# Altium integrated library TI Amplifiers and Linear Special Function Amplifier.IntLib: 708 symbols (part 7 of 47)
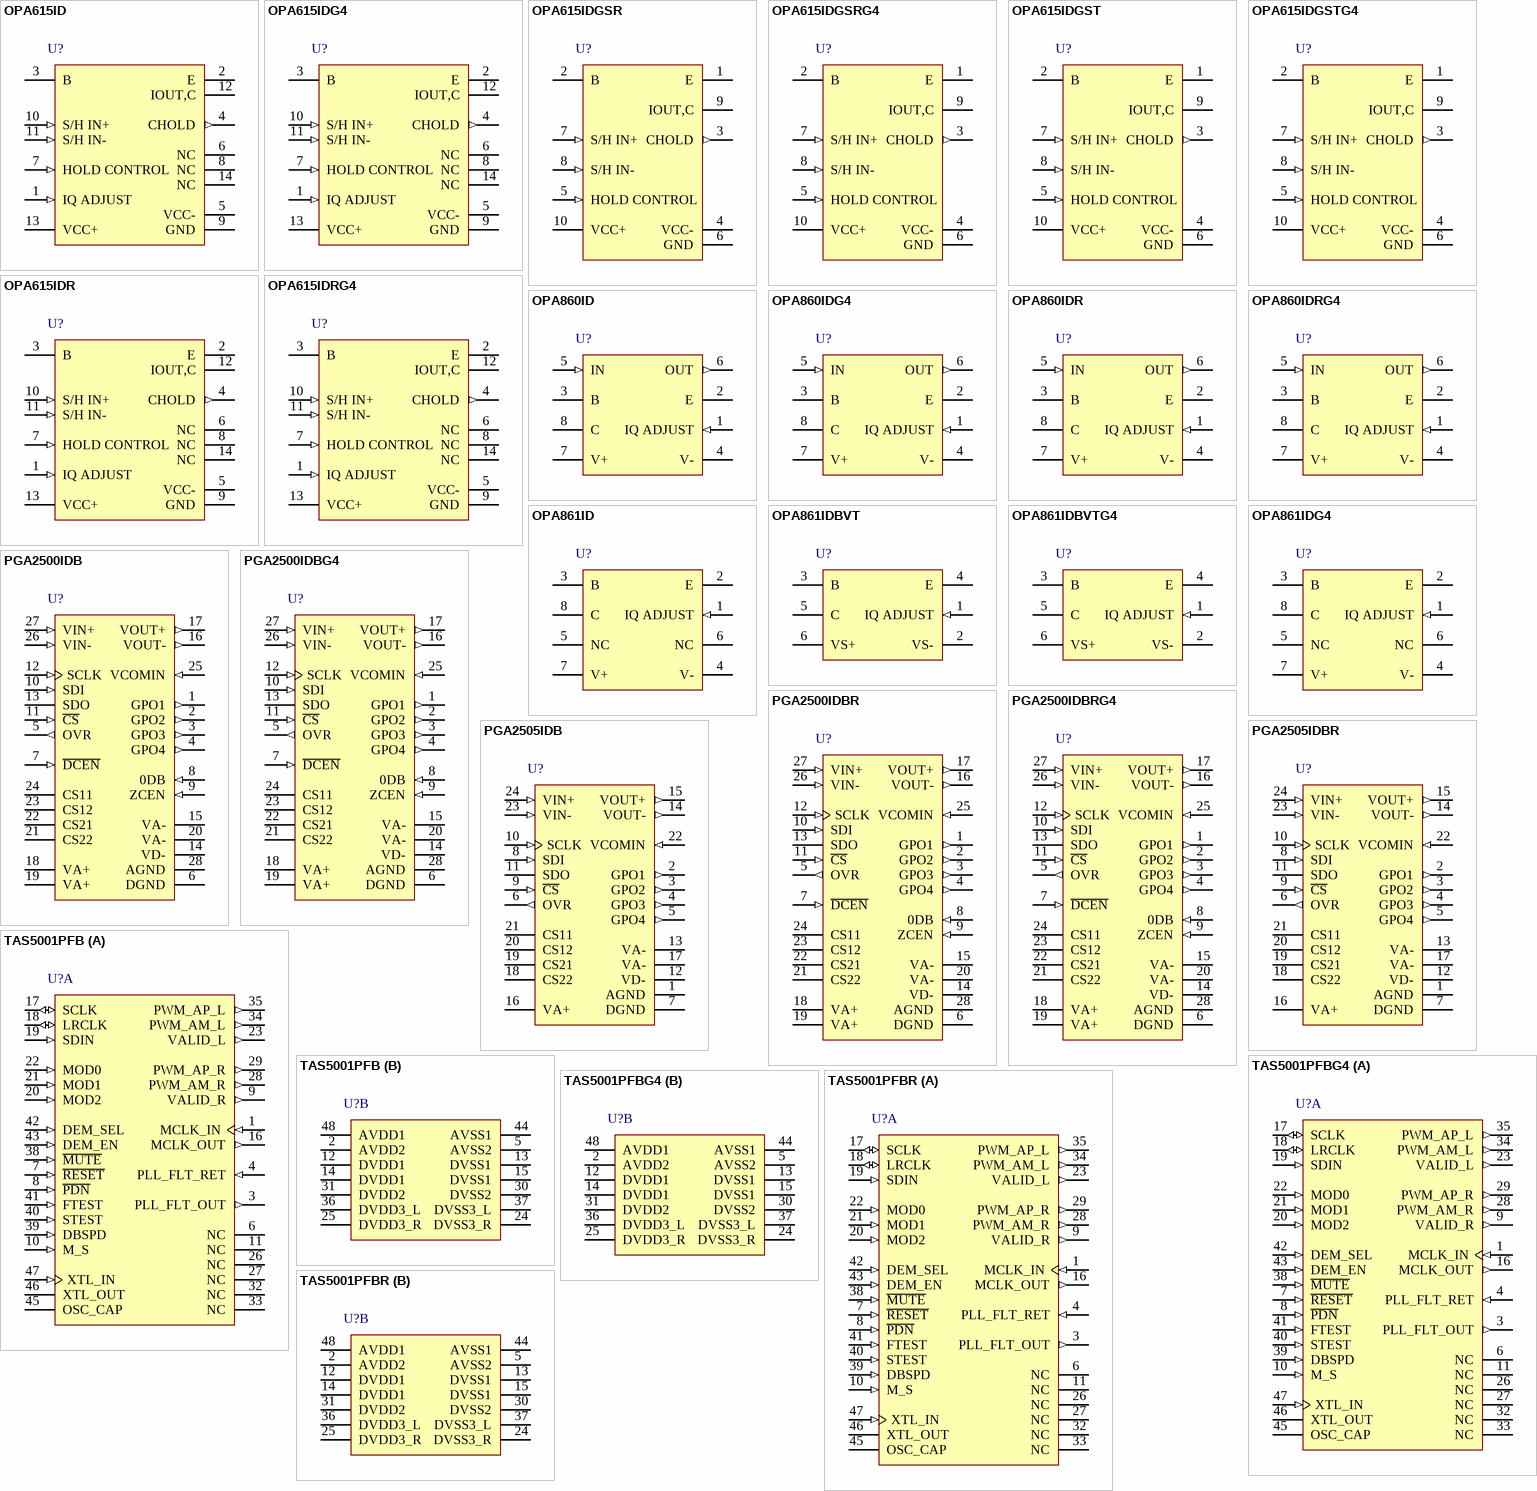
[diagram p45: symbols OPA615ID to TAS5001PFBR]

## OPA861IDBVT
designator U?
Wide Bandwidth Operational Transconductance Amplifier, -40 to 85 degC, 6-pin SOT23 (DBV6), Green (RoHS & no Sb/Br); Manufacturer: Texas Instruments; PartNumber: OPA861IDBVT; BW @ Acl(MHz): 80; Iib(Max)(nA): 5000; Io(Typ)(mA): 15; Iq per channel(Max)(mA): 5.9; Number of Channels: 1; Slew Rate(Typ)(V/us): 900; Vio(Max)(mV): 12; Vn at Flatband(Typ)(nV/rtHz): 2.4; Vs(Max)(V): 12.6; Vs(Min)(V): 4; DatasheetVersion: SBOS338G; PackageVersion: 4073253-5/K, 03/2006; PackageReference: DBV6; PackageDescription: 6-Pin Plastic Small Outline, Body 1.6 x 2.9 mm, Pitch 0.95 mm; Supplier 1: Digi-Key; Supplier Part Number 1: 296-18700-2-ND; Supplier 2: Digi-Key; Supplier Part Number 2: 296-18700-1-ND; Supplier 3: Digi-Key; Supplier Part Number 3: 296-18700-6-ND; Supplier 4: Mouser; Supplier Part Number 4: 595-OPA861IDBVT; Eco-Plan: Green (RoHS & no Sb/Br); SubFamily: Transconductance Amplifier; Mounting Technology: Surface Mount; Code_JEDEC: MO-178; ComponentLink1Description: Manufacturer URL; ComponentLink1URL: http://www.ti.com/; ComponentLink2Description: Datasheet; ComponentLink2URL: http://www.ti.com/general/docs/lit/getliterature.tsp?genericPartNumber=OPA861&fileType=pdf; ComponentLink3Description: Package Specification; ComponentLink3URL: http://www.ti.com/litv/pdf/mpds026h
footprint TI-DBV6_N (SOT23, 6-Leads, Body 3.05x1.75mm, Pitch 0.95mm, IPC Medium Density)
footprint TI-DBV6_L (SOT23, 6-Leads, Body 3.05x1.75mm, Pitch 0.95mm, IPC High Density)
footprint TI-DBV6_M (SOT23, 6-Leads, Body 3.05x1.75mm, Pitch 0.95mm, IPC Low Density)
pins: 1 IQ ADJUST (in), 2 VS- (power), 3 B, 4 E, 5 C, 6 VS+ (power)

## OPA861IDBVTG4
designator U?
Wide Bandwidth Operational Transconductance Amplifier, -40 to 85 degC, 6-pin SOT23 (DBV6), Green (RoHS & no Sb/Br); Manufacturer: Texas Instruments; PartNumber: OPA861IDBVTG4; BW @ Acl(MHz): 80; Iib(Max)(nA): 5000; Io(Typ)(mA): 15; Iq per channel(Max)(mA): 5.9; Number of Channels: 1; Slew Rate(Typ)(V/us): 900; Vio(Max)(mV): 12; Vn at Flatband(Typ)(nV/rtHz): 2.4; Vs(Max)(V): 12.6; Vs(Min)(V): 4; DatasheetVersion: SBOS338G; PackageVersion: 4073253-5/K, 03/2006; PackageReference: DBV6; PackageDescription: 6-Pin Plastic Small Outline, Body 1.6 x 2.9 mm, Pitch 0.95 mm; Supplier 1: Digi-Key; Supplier Part Number 1: OPA861IDBVTG4-ND; Supplier 2: Newark; Supplier Part Number 2: 33M9473; Supplier 3: Mouser; Supplier Part Number 3: 595-OPA861IDBVTG4; Eco-Plan: Green (RoHS & no Sb/Br); SubFamily: Transconductance Amplifier; Mounting Technology: Surface Mount; Code_JEDEC: MO-178; ComponentLink1Description: Manufacturer URL; ComponentLink1URL: http://www.ti.com/; ComponentLink2Description: Datasheet; ComponentLink2URL: http://www.ti.com/general/docs/lit/getliterature.tsp?genericPartNumber=OPA861&fileType=pdf; ComponentLink3Description: Package Specification; ComponentLink3URL: http://www.ti.com/litv/pdf/mpds026h
footprint TI-DBV6_N (SOT23, 6-Leads, Body 3.05x1.75mm, Pitch 0.95mm, IPC Medium Density)
footprint TI-DBV6_L (SOT23, 6-Leads, Body 3.05x1.75mm, Pitch 0.95mm, IPC High Density)
footprint TI-DBV6_M (SOT23, 6-Leads, Body 3.05x1.75mm, Pitch 0.95mm, IPC Low Density)
pins: 1 IQ ADJUST (in), 2 VS- (power), 3 B, 4 E, 5 C, 6 VS+ (power)

## OPA861IDG4
designator U?
Wide Bandwidth Operational Transconductance Amplifier, -40 to 85 degC, 8-pin SOIC (D8), Green (RoHS & no Sb/Br); Manufacturer: Texas Instruments; PartNumber: OPA861IDG4; BW @ Acl(MHz): 80; Iib(Max)(nA): 5000; Io(Typ)(mA): 15; Iq per channel(Max)(mA): 5.9; Number of Channels: 1; Slew Rate(Typ)(V/us): 900; Vio(Max)(mV): 12; Vn at Flatband(Typ)(nV/rtHz): 2.4; Vs(Max)(V): 12.6; Vs(Min)(V): 4; DatasheetVersion: SBOS338G; PackageVersion: 4040047-3/M, 06/2011; PackageReference: D8; PackageDescription: 8-Pin Plastic Small Outline, Body 4.9 x 3.9 mm, Pitch 1.27 mm; Supplier 1: Digi-Key; Supplier Part Number 1: OPA861IDG4-ND; Supplier 2: Mouser; Supplier Part Number 2: 595-OPA861IDG4; Eco-Plan: Green (RoHS & no Sb/Br); SubFamily: Transconductance Amplifier; Mounting Technology: Surface Mount; Code_JEDEC: MS-012; ComponentLink1Description: Manufacturer URL; ComponentLink1URL: http://www.ti.com/; ComponentLink2Description: Datasheet; ComponentLink2URL: http://www.ti.com/general/docs/lit/getliterature.tsp?genericPartNumber=OPA861&fileType=pdf; ComponentLink3Description: Package Specification; ComponentLink3URL: http://www.ti.com/litv/pdf/msoi002j
footprint TI-D8_N (SOIC, 8-Leads, Body 5x4mm, Pitch 1.27mm, IPC Medium Density)
footprint TI-D8_L (SOIC, 8-Leads, Body 5x4mm, Pitch 1.27mm, IPC High Density)
footprint TI-D8_M (SOIC, 8-Leads, Body 5x4mm, Pitch 1.27mm, IPC Low Density)
pins: 1 IQ ADJUST (in), 2 E, 3 B, 4 V- (power), 5 NC, 6 NC, 7 V+ (power), 8 C

## PGA2500IDB
designator U?
Gain Range: 0 dB, and 10 dB to 65 dB in 1 dB Steps, -40 to 85 degC, 28-pin SOP (DB28), Green (RoHS & no Sb/Br); Manufacturer: Texas Instruments; PartNumber: PGA2500IDB; Equivalent Input Noise (EIN) withGain: 30dB(dB)=-128; Input Type: Fully Differential; Quiescent Current (+/-)(Typ)(mA): 30; SubFamily: Microphone Preamplifier; THD+N with Gain: 30dB(percent)=0.0004; Vmax(V): 5.25; Vmin(V): 4.75; DatasheetVersion: SBOS289A; PackageVersion: 4040065/E, 12/2001; PackageReference: DB28; PackageDescription: 28-Pin Plastic Small Outline, Body 10.2 X 5.3 mm, Pitch 0.65 mm; Supplier 1: Digi-Key; Supplier Part Number 1: 296-16674-5-ND; Supplier 2: Farnell; Supplier Part Number 2: 2119099; Supplier 3: Newark; Supplier Part Number 3: 36K7585; Supplier 4: Mouser; Supplier Part Number 4: 595-PGA2500IDB; Eco-Plan: Green (RoHS & no Sb/Br); Gain Range(dB): 0dB, and 10dB to 65dB in 1dB steps; Mounting Technology: Surface Mount; Code_JEDEC: MO-150; ComponentLink1Description: Manufacturer URL; ComponentLink1URL: http://www.ti.com/; ComponentLink2Description: Datasheet; ComponentLink2URL: http://www.ti.com/general/docs/lit/getliterature.tsp?genericPartNumber=PGA2500&fileType=pdf; ComponentLink3Description: Package Specification; ComponentLink3URL: http://www.ti.com/lit/ml/msso002e/msso002e.pdf
footprint TI-DB28_N (SOP, 28-Leads, Body 10.2x5.3mm, Pitch 0.65mm, IPC Medium Density)
footprint TI-DB28_L (SOP, 28-Leads, Body 10.2x5.3mm, Pitch 0.65mm, IPC High Density)
footprint TI-DB28_M (SOP, 28-Leads, Body 10.2x5.3mm, Pitch 0.65mm, IPC Low Density)
pins: 1 GPO1 (out) "General-Purpose CMOS Logic Output", 2 GPO2 (out) "General-Purpose CMOS Logic Output", 3 GPO3 (out) "General-Purpose CMOS Logic Output", 4 GPO4 (out) "General-Purpose CMOS Logic Output", 5 OVR (out) "Over Range Output (Active High)", 6 DGND (power) "Digital Ground", 7 ~{DCEN} (in) "DC Servo Enable (Active Low)", 8 0DB (in) "Unity Gain Enable (Active High)", 9 ZCEN (in) "Zero Crossing Detector Enable (Active High)", 10 SDI (in) "Serial Data Input", 11 ~{CS} (in) "Chip Select Input (Active Low)", 12 SCLK (in) "Serial Data Clock Input", 13 SDO (hiz) "Serial Data Output", 14 VD- (power) "-5V Digital Supply", 15 VA- (power) "-5V Analog Supply", 16 VOUT- (out) "Analog Output, Inverting", 17 VOUT+ (out) "Analog Output, Non-Inverting", 18 VA+ (power) "+5V Analog Supply", 19 VA+ (power) "+5V Analog Supply", 20 VA- (power) "-5V Analog Supply", 21 CS22 "DC Servo Capacitor #2, Terminal 2", 22 CS21 "DC Servo Capacitor #2, Terminal 1", 23 CS12 "DC Servo Capacitor #1, Terminal 2", 24 CS11 "DC Servo Capacitor #1, Terminal 1", 25 VCOMIN (in) "Common Mode Voltage Input, 0V to +2.5V", 26 VIN- (in) "Analog Input, Inverting", 27 VIN+ (in) "Analog Input, Noninverting", 28 AGND (power) "Analog Ground"

## PGA2500IDBG4
designator U?
Gain Range: 0 dB, and 10 dB to 65 dB in 1 dB Steps, -40 to 85 degC, 28-pin SOP (DB28), Green (RoHS & no Sb/Br); Manufacturer: Texas Instruments; PartNumber: PGA2500IDBG4; Equivalent Input Noise (EIN) withGain: 30dB(dB)=-128; Input Type: Fully Differential; Quiescent Current (+/-)(Typ)(mA): 30; SubFamily: Microphone Preamplifier; THD+N with Gain: 30dB(percent)=0.0004; Vmax(V): 5.25; Vmin(V): 4.75; DatasheetVersion: SBOS289A; PackageVersion: 4040065/E, 12/2001; PackageReference: DB28; PackageDescription: 28-Pin Plastic Small Outline, Body 10.2 X 5.3 mm, Pitch 0.65 mm; Supplier 1: Digi-Key; Supplier Part Number 1: PGA2500IDBG4-ND; Supplier 2: Farnell; Supplier Part Number 2: 1180156; Supplier 3: Newark; Supplier Part Number 3: 26M1946; Supplier 4: Newark; Supplier Part Number 4: 24K4716; Supplier 5: Mouser; Supplier Part Number 5: 595-PGA2500IDBG4; Eco-Plan: Green (RoHS & no Sb/Br); Gain Range(dB): 0dB, and 10dB to 65dB in 1dB steps; Mounting Technology: Surface Mount; Code_JEDEC: MO-150; ComponentLink1Description: Manufacturer URL; ComponentLink1URL: http://www.ti.com/; ComponentLink2Description: Datasheet; ComponentLink2URL: http://www.ti.com/general/docs/lit/getliterature.tsp?genericPartNumber=PGA2500&fileType=pdf; ComponentLink3Description: Package Specification; ComponentLink3URL: http://www.ti.com/lit/ml/msso002e/msso002e.pdf
footprint TI-DB28_N (SOP, 28-Leads, Body 10.2x5.3mm, Pitch 0.65mm, IPC Medium Density)
footprint TI-DB28_L (SOP, 28-Leads, Body 10.2x5.3mm, Pitch 0.65mm, IPC High Density)
footprint TI-DB28_M (SOP, 28-Leads, Body 10.2x5.3mm, Pitch 0.65mm, IPC Low Density)
pins: 1 GPO1 (out) "General-Purpose CMOS Logic Output", 2 GPO2 (out) "General-Purpose CMOS Logic Output", 3 GPO3 (out) "General-Purpose CMOS Logic Output", 4 GPO4 (out) "General-Purpose CMOS Logic Output", 5 OVR (out) "Over Range Output (Active High)", 6 DGND (power) "Digital Ground", 7 ~{DCEN} (in) "DC Servo Enable (Active Low)", 8 0DB (in) "Unity Gain Enable (Active High)", 9 ZCEN (in) "Zero Crossing Detector Enable (Active High)", 10 SDI (in) "Serial Data Input", 11 ~{CS} (in) "Chip Select Input (Active Low)", 12 SCLK (in) "Serial Data Clock Input", 13 SDO (hiz) "Serial Data Output", 14 VD- (power) "-5V Digital Supply", 15 VA- (power) "-5V Analog Supply", 16 VOUT- (out) "Analog Output, Inverting", 17 VOUT+ (out) "Analog Output, Non-Inverting", 18 VA+ (power) "+5V Analog Supply", 19 VA+ (power) "+5V Analog Supply", 20 VA- (power) "-5V Analog Supply", 21 CS22 "DC Servo Capacitor #2, Terminal 2", 22 CS21 "DC Servo Capacitor #2, Terminal 1", 23 CS12 "DC Servo Capacitor #1, Terminal 2", 24 CS11 "DC Servo Capacitor #1, Terminal 1", 25 VCOMIN (in) "Common Mode Voltage Input, 0V to +2.5V", 26 VIN- (in) "Analog Input, Inverting", 27 VIN+ (in) "Analog Input, Noninverting", 28 AGND (power) "Analog Ground"

## PGA2500IDBR
designator U?
Gain Range: 0 dB, and 10 dB to 65 dB in 1 dB Steps, -40 to 85 degC, 28-pin SOP (DB28), Green (RoHS & no Sb/Br); Manufacturer: Texas Instruments; PartNumber: PGA2500IDBR; Equivalent Input Noise (EIN) withGain: 30dB(dB)=-128; Input Type: Fully Differential; Quiescent Current (+/-)(Typ)(mA): 30; SubFamily: Microphone Preamplifier; THD+N with Gain: 30dB(percent)=0.0004; Vmax(V): 5.25; Vmin(V): 4.75; DatasheetVersion: SBOS289A; PackageVersion: 4040065/E, 12/2001; PackageReference: DB28; PackageDescription: 28-Pin Plastic Small Outline, Body 10.2 X 5.3 mm, Pitch 0.65 mm; Supplier 1: Digi-Key; Supplier Part Number 1: PGA2500IDBR-ND; Supplier 2: Newark; Supplier Part Number 2: 90H2305; Supplier 3: Mouser; Supplier Part Number 3: 595-PGA2500IDBR; Eco-Plan: Green (RoHS & no Sb/Br); Gain Range(dB): 0dB, and 10dB to 65dB in 1dB steps; Mounting Technology: Surface Mount; Code_JEDEC: MO-150; ComponentLink1Description: Manufacturer URL; ComponentLink1URL: http://www.ti.com/; ComponentLink2Description: Datasheet; ComponentLink2URL: http://www.ti.com/general/docs/lit/getliterature.tsp?genericPartNumber=PGA2500&fileType=pdf; ComponentLink3Description: Package Specification; ComponentLink3URL: http://www.ti.com/lit/ml/msso002e/msso002e.pdf
footprint TI-DB28_N (SOP, 28-Leads, Body 10.2x5.3mm, Pitch 0.65mm, IPC Medium Density)
footprint TI-DB28_L (SOP, 28-Leads, Body 10.2x5.3mm, Pitch 0.65mm, IPC High Density)
footprint TI-DB28_M (SOP, 28-Leads, Body 10.2x5.3mm, Pitch 0.65mm, IPC Low Density)
pins: 1 GPO1 (out) "General-Purpose CMOS Logic Output", 2 GPO2 (out) "General-Purpose CMOS Logic Output", 3 GPO3 (out) "General-Purpose CMOS Logic Output", 4 GPO4 (out) "General-Purpose CMOS Logic Output", 5 OVR (out) "Over Range Output (Active High)", 6 DGND (power) "Digital Ground", 7 ~{DCEN} (in) "DC Servo Enable (Active Low)", 8 0DB (in) "Unity Gain Enable (Active High)", 9 ZCEN (in) "Zero Crossing Detector Enable (Active High)", 10 SDI (in) "Serial Data Input", 11 ~{CS} (in) "Chip Select Input (Active Low)", 12 SCLK (in) "Serial Data Clock Input", 13 SDO (hiz) "Serial Data Output", 14 VD- (power) "-5V Digital Supply", 15 VA- (power) "-5V Analog Supply", 16 VOUT- (out) "Analog Output, Inverting", 17 VOUT+ (out) "Analog Output, Non-Inverting", 18 VA+ (power) "+5V Analog Supply", 19 VA+ (power) "+5V Analog Supply", 20 VA- (power) "-5V Analog Supply", 21 CS22 "DC Servo Capacitor #2, Terminal 2", 22 CS21 "DC Servo Capacitor #2, Terminal 1", 23 CS12 "DC Servo Capacitor #1, Terminal 2", 24 CS11 "DC Servo Capacitor #1, Terminal 1", 25 VCOMIN (in) "Common Mode Voltage Input, 0V to +2.5V", 26 VIN- (in) "Analog Input, Inverting", 27 VIN+ (in) "Analog Input, Noninverting", 28 AGND (power) "Analog Ground"

## PGA2500IDBRG4
designator U?
Gain Range: 0 dB, and 10 dB to 65 dB in 1 dB Steps, -40 to 85 degC, 28-pin SOP (DB28), Green (RoHS & no Sb/Br); Manufacturer: Texas Instruments; PartNumber: PGA2500IDBRG4; Equivalent Input Noise (EIN) withGain: 30dB(dB)=-128; Input Type: Fully Differential; Quiescent Current (+/-)(Typ)(mA): 30; SubFamily: Microphone Preamplifier; THD+N with Gain: 30dB(percent)=0.0004; Vmax(V): 5.25; Vmin(V): 4.75; DatasheetVersion: SBOS289A; PackageVersion: 4040065/E, 12/2001; PackageReference: DB28; PackageDescription: 28-Pin Plastic Small Outline, Body 10.2 X 5.3 mm, Pitch 0.65 mm; Supplier 1: Digi-Key; Supplier Part Number 1: PGA2500IDBRG4-ND; Supplier 2: Newark; Supplier Part Number 2: 73K9280; Supplier 3: Mouser; Supplier Part Number 3: 595-PGA2500IDBRG4; Eco-Plan: Green (RoHS & no Sb/Br); Gain Range(dB): 0dB, and 10dB to 65dB in 1dB steps; Mounting Technology: Surface Mount; Code_JEDEC: MO-150; ComponentLink1Description: Manufacturer URL; ComponentLink1URL: http://www.ti.com/; ComponentLink2Description: Datasheet; ComponentLink2URL: http://www.ti.com/general/docs/lit/getliterature.tsp?genericPartNumber=PGA2500&fileType=pdf; ComponentLink3Description: Package Specification; ComponentLink3URL: http://www.ti.com/lit/ml/msso002e/msso002e.pdf
footprint TI-DB28_N (SOP, 28-Leads, Body 10.2x5.3mm, Pitch 0.65mm, IPC Medium Density)
footprint TI-DB28_L (SOP, 28-Leads, Body 10.2x5.3mm, Pitch 0.65mm, IPC High Density)
footprint TI-DB28_M (SOP, 28-Leads, Body 10.2x5.3mm, Pitch 0.65mm, IPC Low Density)
pins: 1 GPO1 (out) "General-Purpose CMOS Logic Output", 2 GPO2 (out) "General-Purpose CMOS Logic Output", 3 GPO3 (out) "General-Purpose CMOS Logic Output", 4 GPO4 (out) "General-Purpose CMOS Logic Output", 5 OVR (out) "Over Range Output (Active High)", 6 DGND (power) "Digital Ground", 7 ~{DCEN} (in) "DC Servo Enable (Active Low)", 8 0DB (in) "Unity Gain Enable (Active High)", 9 ZCEN (in) "Zero Crossing Detector Enable (Active High)", 10 SDI (in) "Serial Data Input", 11 ~{CS} (in) "Chip Select Input (Active Low)", 12 SCLK (in) "Serial Data Clock Input", 13 SDO (hiz) "Serial Data Output", 14 VD- (power) "-5V Digital Supply", 15 VA- (power) "-5V Analog Supply", 16 VOUT- (out) "Analog Output, Inverting", 17 VOUT+ (out) "Analog Output, Non-Inverting", 18 VA+ (power) "+5V Analog Supply", 19 VA+ (power) "+5V Analog Supply", 20 VA- (power) "-5V Analog Supply", 21 CS22 "DC Servo Capacitor #2, Terminal 2", 22 CS21 "DC Servo Capacitor #2, Terminal 1", 23 CS12 "DC Servo Capacitor #1, Terminal 2", 24 CS11 "DC Servo Capacitor #1, Terminal 1", 25 VCOMIN (in) "Common Mode Voltage Input, 0V to +2.5V", 26 VIN- (in) "Analog Input, Inverting", 27 VIN+ (in) "Analog Input, Noninverting", 28 AGND (power) "Analog Ground"

## PGA2505IDB
designator U?
Gain Range: 0 dB, and 9 dB to 60 dB, in 3 dB Steps, -40 to 85 degC, 24-pin SOP (DB24), Green (RoHS & no Sb/Br); Manufacturer: Texas Instruments; PartNumber: PGA2505IDB; Equivalent Input Noise (EIN) withGain: 30dB(dB)=-123; Gain Range(dB): 9dB through 60dB, in 3dB steps; Input Type: Fully Differential; Quiescent Current (+/-)(Typ)(mA): 30; SubFamily: Microphone Preamplifier; THD+N with Gain: 30dB(percent)=0.0006; Vmax(V): 5.25; Vmin(V): 4.75; DatasheetVersion: SBOS396B; PackageVersion: 4040065/E, 12/2001; PackageReference: DB24; PackageDescription: 24-Pin Plastic Small Outline, Body 8.2 x 5.3 mm, Pitch 0.65 mm; Supplier 1: Digi-Key; Supplier Part Number 1: 296-24572-5-ND; Supplier 2: Farnell; Supplier Part Number 2: 1735567; Supplier 3: Newark; Supplier Part Number 3: 11R6646; Supplier 4: Mouser; Supplier Part Number 4: 595-PGA2505IDB; Eco-Plan: Green (RoHS & no Sb/Br); Mounting Technology: Surface Mount; Code_JEDEC: MO-150; ComponentLink1Description: Manufacturer URL; ComponentLink1URL: http://www.ti.com/; ComponentLink2Description: Datasheet; ComponentLink2URL: http://www.ti.com/general/docs/lit/getliterature.tsp?genericPartNumber=PGA2505&fileType=pdf; ComponentLink3Description: Package Specification; ComponentLink3URL: http://www.ti.com/lit/ml/msso002e/msso002e.pdf
footprint TI-DB24_N (SOP, 24-Leads, Body 8.2x5.3mm, Pitch 0.65mm, IPC Medium Density)
footprint TI-DB24_L (SOP, 24-Leads, Body 8.2x5.3mm, Pitch 0.65mm, IPC High Density)
footprint TI-DB24_M (SOP, 24-Leads, Body 8.2x5.3mm, Pitch 0.65mm, IPC Low Density)
pins: 1 AGND (power) "Analog Ground", 2 GPO1 (out) "General-Purpose CMOS Logic Output", 3 GPO2 (out) "General-Purpose CMOS Logic Output", 4 GPO3 (out) "General-Purpose CMOS Logic Output", 5 GPO4 (out) "General-Purpose CMOS Logic Output", 6 OVR (out) "Over Range Output (Active High)", 7 DGND (power) "Digital Ground", 8 SDI (in) "Serial Data Input", 9 ~{CS} (in) "Chip Select Input (Active Low)", 10 SCLK (in) "Serial Data Clock Input", 11 SDO (hiz) "Serial Data Output", 12 VD- (power) "-5V Digital Supply", 13 VA- (power) "-5V Analog Supply", 14 VOUT- (out) "Inverting Analog Output", 15 VOUT+ (out) "Noninverting Analog Output", 16 VA+ (power) "+5V Analog Supply", 17 VA- (power) "-5V Analog Supply", 18 CS22 "External DC Servo Capacitor #2, Terminal 2", 19 CS21 "External DC Servo Capacitor #2, Terminal 1", 20 CS12 "External DC Servo Capacitor #1, Terminal 2", 21 CS11 "External DC Servo Capacitor #1, Terminal 1", 22 VCOMIN (in) "Common Mode Voltage Input, 0V to +2.5V", 23 VIN- (in) "Inverting Analog Input", 24 VIN+ (in) "Noninverting Analog Input"

## PGA2505IDBR
designator U?
Gain Range: 0 dB, and 9 dB to 60 dB, in 3 dB Steps, -40 to 85 degC, 24-pin SOP (DB24), Green (RoHS & no Sb/Br); Manufacturer: Texas Instruments; PartNumber: PGA2505IDBR; Equivalent Input Noise (EIN) withGain: 30dB(dB)=-123; Gain Range(dB): 9dB through 60dB, in 3dB steps; Input Type: Fully Differential; Quiescent Current (+/-)(Typ)(mA): 30; SubFamily: Microphone Preamplifier; THD+N with Gain: 30dB(percent)=0.0006; Vmax(V): 5.25; Vmin(V): 4.75; DatasheetVersion: SBOS396B; PackageVersion: 4040065/E, 12/2001; PackageReference: DB24; PackageDescription: 24-Pin Plastic Small Outline, Body 8.2 x 5.3 mm, Pitch 0.65 mm; Supplier 1: Digi-Key; Supplier Part Number 1: PGA2505IDBR-ND; Supplier 2: Mouser; Supplier Part Number 2: 595-PGA2505IDBR; Eco-Plan: Green (RoHS & no Sb/Br); Mounting Technology: Surface Mount; Code_JEDEC: MO-150; ComponentLink1Description: Manufacturer URL; ComponentLink1URL: http://www.ti.com/; ComponentLink2Description: Datasheet; ComponentLink2URL: http://www.ti.com/general/docs/lit/getliterature.tsp?genericPartNumber=PGA2505&fileType=pdf; ComponentLink3Description: Package Specification; ComponentLink3URL: http://www.ti.com/lit/ml/msso002e/msso002e.pdf
footprint TI-DB24_N (SOP, 24-Leads, Body 8.2x5.3mm, Pitch 0.65mm, IPC Medium Density)
footprint TI-DB24_L (SOP, 24-Leads, Body 8.2x5.3mm, Pitch 0.65mm, IPC High Density)
footprint TI-DB24_M (SOP, 24-Leads, Body 8.2x5.3mm, Pitch 0.65mm, IPC Low Density)
pins: 1 AGND (power) "Analog Ground", 2 GPO1 (out) "General-Purpose CMOS Logic Output", 3 GPO2 (out) "General-Purpose CMOS Logic Output", 4 GPO3 (out) "General-Purpose CMOS Logic Output", 5 GPO4 (out) "General-Purpose CMOS Logic Output", 6 OVR (out) "Over Range Output (Active High)", 7 DGND (power) "Digital Ground", 8 SDI (in) "Serial Data Input", 9 ~{CS} (in) "Chip Select Input (Active Low)", 10 SCLK (in) "Serial Data Clock Input", 11 SDO (hiz) "Serial Data Output", 12 VD- (power) "-5V Digital Supply", 13 VA- (power) "-5V Analog Supply", 14 VOUT- (out) "Inverting Analog Output", 15 VOUT+ (out) "Noninverting Analog Output", 16 VA+ (power) "+5V Analog Supply", 17 VA- (power) "-5V Analog Supply", 18 CS22 "External DC Servo Capacitor #2, Terminal 2", 19 CS21 "External DC Servo Capacitor #2, Terminal 1", 20 CS12 "External DC Servo Capacitor #1, Terminal 2", 21 CS11 "External DC Servo Capacitor #1, Terminal 1", 22 VCOMIN (in) "Common Mode Voltage Input, 0V to +2.5V", 23 VIN- (in) "Inverting Analog Input", 24 VIN+ (in) "Noninverting Analog Input"

## TAS5001PFB
designator U?
Digital Audio PWM Processor, 0 to 70 degC, 48-pin QFP (PFB48), Green (RoHS & no Sb/Br); Manufacturer: Texas Instruments; PartNumber: TAS5001PFB; Audio Output Channels (PWM)(#): 2; Data Resolution: 16, 20, 24; Digital Supply (up to 5 V)(Max)(V): 3.6; Digital Supply (up to 5 V)(Min)(V): 3; Dynamic Range(dB): 96; Fs(Min)(kHz): 32; Mute: Yes; PurePath: TRUE; Serial Interface: I2S, R, L, DSP; DatasheetVersion: SLES009A; PackageVersion: 4073176/B, 10/1996; PackageReference: PFB48; PackageDescription: 48-Pin Plastic Flat Pack, Body 7 x 7 mm, Pitch 0.5 mm; Supplier 1: Digi-Key; Supplier Part Number 1: 296-12212-ND; Supplier 2: Newark; Supplier Part Number 2: 76C5967; Supplier 3: Mouser; Supplier Part Number 3: 595-TAS5001PFB; Eco-Plan: Green (RoHS & no Sb/Br); Fs(Max)(kHz): 96; Loudness Compensation: No; Output: PWM; SubFamily: PWM Processor; Mounting Technology: Surface Mount; Code_JEDEC: MS-026; ComponentLink1Description: Manufacturer URL; ComponentLink1URL: http://www.ti.com/; ComponentLink2Description: Datasheet; ComponentLink2URL: http://www.ti.com/general/docs/lit/getliterature.tsp?genericPartNumber=TAS5001&fileType=pdf; ComponentLink3Description: Package Specification; ComponentLink3URL: http://www.ti.com/lit/ml/mtqf019a/mtqf019a.pdf
footprint TI-PFB48_N (QFP, 48-Leads, Body 7x7mm, Pitch 0.5mm, IPC Medium Density)
footprint TI-PFB48_L (QFP, 48-Leads, Body 7x7mm, Pitch 0.5mm, IPC High Density)
footprint TI-PFB48_M (QFP, 48-Leads, Body 7x7mm, Pitch 0.5mm, IPC Low Density)
part A pins: 1 MCLK_IN (in) "MCLK input", 3 PLL_FLT_OUT (out) "Output terminal for external PLL filter.", 4 PLL_FLT_RET (in) "Return for external PLL filter.", 6 NC "No connection.", 7 ~{RESET} (in) "Reset (active low).", 8 ~{PDN} (in) "Power down, active low.", 9 VALID_R (out) "PWM right outputs valid (active high)", 10 M_S (in) "Master/slave, master=1, slave=0.", 11 NC "No connection", 16 MCLK_OUT (out) "Buffered system clock output if M_S = 1; otherwise set to 0.", 17 SCLK (io) "Shift clock (input when M_S = 0, output when M_S = 1).", 18 LRCLK (io) "Left/right clock (input when M_S = 0; output when M_S = 1).", 19 SDIN (in) "Stereo serial audio data input.", 20 MOD2 (in) "Serial interface selection pin, bit 2 (MSB).", 21 MOD1 (in) "Serial interface selection pin, bit 1.", 22 MOD0 (in) "Serial interface selection pin, bit 0.", 23 VALID_L (out) "PWM left outputs valid (active high).", 26 NC "No connection.", 27 NC "No connection.", 28 PWM_AM_R (out) "PWM right output (differential -).", 29 PWM_AP_R (out) "PWM right output (differential +).", 32 NC "No connection.", 33 NC "No connection.", 34 PWM_AM_L (out) "PWM left output (differential -).", 35 PWM_AP_L (out) "PWM left output (differential +).", 38 ~{MUTE} (in) "Muted signal = 0, normal mode = 1.", 39 DBSPD (in) "Indicates sample rate is double speed (88.2 kHz or 96 kHz), active high.", 40 STEST (in) "Tied to DVSS1 for normal operation.", 41 FTEST (in) "Tied to DVSS1 for normal operation.", 42 DEM_SEL (in) "De-emphasis select (0 = 44.1 kHz, 1 = 48 kHz).", 43 DEM_EN (in) "De-emphasis enable, active high.", 45 OSC_CAP "Oscillator cap return.", 46 XTL_OUT "Crystal output (not for external usage). NC when XTL_IN is MCLK input.", 47 XTL_IN (in) "Crystal or clock input (MCLK input)."
part B pins: 2 AVDD2 (power) "Analog supply for PLL", 5 AVSS2 (power) "Analog ground for PLL.", 12 DVDD1 (power) "Digital voltage supply for logic.", 13 DVSS1 (power) "Digital ground for logic.", 14 DVDD1 (power) "Digital voltage supply for logic.", 15 DVSS1 (power) "Digital ground for logic.", 24 DVSS3_R (power) "Digital ground for PWM output (right).", 25 DVDD3_R (power) "Digital voltage supply for PWM output (right).", 30 DVSS2 (power) "Digital ground for PWM reclocking.", 31 DVDD2 (power) "Digital voltage supply for PWM reclocking.", 36 DVDD3_L (power) "Digital voltage supply for PWM output (left).", 37 DVSS3_L (power) "Digital ground for PWM output (left).", 44 AVSS1 (power) "Analog ground for oscillator.", 48 AVDD1 (power) "Analog supply for oscillator."

## TAS5001PFBG4
designator U?
Digital Audio PWM Processor, 0 to 70 degC, 48-pin QFP (PFB48), Green (RoHS & no Sb/Br); Manufacturer: Texas Instruments; PartNumber: TAS5001PFBG4; Audio Output Channels (PWM)(#): 2; Data Resolution: 16, 20, 24; Digital Supply (up to 5 V)(Max)(V): 3.6; Digital Supply (up to 5 V)(Min)(V): 3; Dynamic Range(dB): 96; Fs(Min)(kHz): 32; Mute: Yes; PurePath: TRUE; Serial Interface: I2S, R, L, DSP; DatasheetVersion: SLES009A; PackageVersion: 4073176/B, 10/1996; PackageReference: PFB48; PackageDescription: 48-Pin Plastic Flat Pack, Body 7 x 7 mm, Pitch 0.5 mm; Supplier 1: Digi-Key; Supplier Part Number 1: TAS5001PFBG4-ND; Supplier 2: Newark; Supplier Part Number 2: 27M0857; Supplier 3: Mouser; Supplier Part Number 3: 595-TAS5001PFBG4; Eco-Plan: Green (RoHS & no Sb/Br); Fs(Max)(kHz): 96; Loudness Compensation: No; Output: PWM; SubFamily: PWM Processor; Mounting Technology: Surface Mount; Code_JEDEC: MS-026; ComponentLink1Description: Manufacturer URL; ComponentLink1URL: http://www.ti.com/; ComponentLink2Description: Datasheet; ComponentLink2URL: http://www.ti.com/general/docs/lit/getliterature.tsp?genericPartNumber=TAS5001&fileType=pdf; ComponentLink3Description: Package Specification; ComponentLink3URL: http://www.ti.com/lit/ml/mtqf019a/mtqf019a.pdf
footprint TI-PFB48_N (QFP, 48-Leads, Body 7x7mm, Pitch 0.5mm, IPC Medium Density)
footprint TI-PFB48_L (QFP, 48-Leads, Body 7x7mm, Pitch 0.5mm, IPC High Density)
footprint TI-PFB48_M (QFP, 48-Leads, Body 7x7mm, Pitch 0.5mm, IPC Low Density)
part A pins: 1 MCLK_IN (in) "MCLK input", 3 PLL_FLT_OUT (out) "Output terminal for external PLL filter.", 4 PLL_FLT_RET (in) "Return for external PLL filter.", 6 NC "No connection.", 7 ~{RESET} (in) "Reset (active low).", 8 ~{PDN} (in) "Power down, active low.", 9 VALID_R (out) "PWM right outputs valid (active high)", 10 M_S (in) "Master/slave, master=1, slave=0.", 11 NC "No connection", 16 MCLK_OUT (out) "Buffered system clock output if M_S = 1; otherwise set to 0.", 17 SCLK (io) "Shift clock (input when M_S = 0, output when M_S = 1).", 18 LRCLK (io) "Left/right clock (input when M_S = 0; output when M_S = 1).", 19 SDIN (in) "Stereo serial audio data input.", 20 MOD2 (in) "Serial interface selection pin, bit 2 (MSB).", 21 MOD1 (in) "Serial interface selection pin, bit 1.", 22 MOD0 (in) "Serial interface selection pin, bit 0.", 23 VALID_L (out) "PWM left outputs valid (active high).", 26 NC "No connection.", 27 NC "No connection.", 28 PWM_AM_R (out) "PWM right output (differential -).", 29 PWM_AP_R (out) "PWM right output (differential +).", 32 NC "No connection.", 33 NC "No connection.", 34 PWM_AM_L (out) "PWM left output (differential -).", 35 PWM_AP_L (out) "PWM left output (differential +).", 38 ~{MUTE} (in) "Muted signal = 0, normal mode = 1.", 39 DBSPD (in) "Indicates sample rate is double speed (88.2 kHz or 96 kHz), active high.", 40 STEST (in) "Tied to DVSS1 for normal operation.", 41 FTEST (in) "Tied to DVSS1 for normal operation.", 42 DEM_SEL (in) "De-emphasis select (0 = 44.1 kHz, 1 = 48 kHz).", 43 DEM_EN (in) "De-emphasis enable, active high.", 45 OSC_CAP "Oscillator cap return.", 46 XTL_OUT "Crystal output (not for external usage). NC when XTL_IN is MCLK input.", 47 XTL_IN (in) "Crystal or clock input (MCLK input)."
part B pins: 2 AVDD2 (power) "Analog supply for PLL", 5 AVSS2 (power) "Analog ground for PLL.", 12 DVDD1 (power) "Digital voltage supply for logic.", 13 DVSS1 (power) "Digital ground for logic.", 14 DVDD1 (power) "Digital voltage supply for logic.", 15 DVSS1 (power) "Digital ground for logic.", 24 DVSS3_R (power) "Digital ground for PWM output (right).", 25 DVDD3_R (power) "Digital voltage supply for PWM output (right).", 30 DVSS2 (power) "Digital ground for PWM reclocking.", 31 DVDD2 (power) "Digital voltage supply for PWM reclocking.", 36 DVDD3_L (power) "Digital voltage supply for PWM output (left).", 37 DVSS3_L (power) "Digital ground for PWM output (left).", 44 AVSS1 (power) "Analog ground for oscillator.", 48 AVDD1 (power) "Analog supply for oscillator."

## TAS5001PFBR
designator U?
Digital Audio PWM Processor, 0 to 70 degC, 48-pin QFP (PFB48), Green (RoHS & no Sb/Br); Manufacturer: Texas Instruments; PartNumber: TAS5001PFBR; Audio Output Channels (PWM)(#): 2; Data Resolution: 16, 20, 24; Digital Supply (up to 5 V)(Max)(V): 3.6; Digital Supply (up to 5 V)(Min)(V): 3; Dynamic Range(dB): 96; Fs(Min)(kHz): 32; Mute: Yes; PurePath: TRUE; Serial Interface: I2S, R, L, DSP; DatasheetVersion: SLES009A; PackageVersion: 4073176/B, 10/1996; PackageReference: PFB48; PackageDescription: 48-Pin Plastic Flat Pack, Body 7 x 7 mm, Pitch 0.5 mm; Supplier 1: Digi-Key; Supplier Part Number 1: TAS5001PFBR-ND; Supplier 2: Newark; Supplier Part Number 2: 76C5968; Supplier 3: Mouser; Supplier Part Number 3: 595-TAS5001PFBR; Eco-Plan: Green (RoHS & no Sb/Br); Fs(Max)(kHz): 96; Loudness Compensation: No; Output: PWM; SubFamily: PWM Processor; Mounting Technology: Surface Mount; Code_JEDEC: MS-026; ComponentLink1Description: Manufacturer URL; ComponentLink1URL: http://www.ti.com/; ComponentLink2Description: Datasheet; ComponentLink2URL: http://www.ti.com/general/docs/lit/getliterature.tsp?genericPartNumber=TAS5001&fileType=pdf; ComponentLink3Description: Package Specification; ComponentLink3URL: http://www.ti.com/lit/ml/mtqf019a/mtqf019a.pdf
footprint TI-PFB48_N (QFP, 48-Leads, Body 7x7mm, Pitch 0.5mm, IPC Medium Density)
footprint TI-PFB48_L (QFP, 48-Leads, Body 7x7mm, Pitch 0.5mm, IPC High Density)
footprint TI-PFB48_M (QFP, 48-Leads, Body 7x7mm, Pitch 0.5mm, IPC Low Density)
part A pins: 1 MCLK_IN (in) "MCLK input", 3 PLL_FLT_OUT (out) "Output terminal for external PLL filter.", 4 PLL_FLT_RET (in) "Return for external PLL filter.", 6 NC "No connection.", 7 ~{RESET} (in) "Reset (active low).", 8 ~{PDN} (in) "Power down, active low.", 9 VALID_R (out) "PWM right outputs valid (active high)", 10 M_S (in) "Master/slave, master=1, slave=0.", 11 NC "No connection", 16 MCLK_OUT (out) "Buffered system clock output if M_S = 1; otherwise set to 0.", 17 SCLK (io) "Shift clock (input when M_S = 0, output when M_S = 1).", 18 LRCLK (io) "Left/right clock (input when M_S = 0; output when M_S = 1).", 19 SDIN (in) "Stereo serial audio data input.", 20 MOD2 (in) "Serial interface selection pin, bit 2 (MSB).", 21 MOD1 (in) "Serial interface selection pin, bit 1.", 22 MOD0 (in) "Serial interface selection pin, bit 0.", 23 VALID_L (out) "PWM left outputs valid (active high).", 26 NC "No connection.", 27 NC "No connection.", 28 PWM_AM_R (out) "PWM right output (differential -).", 29 PWM_AP_R (out) "PWM right output (differential +).", 32 NC "No connection.", 33 NC "No connection.", 34 PWM_AM_L (out) "PWM left output (differential -).", 35 PWM_AP_L (out) "PWM left output (differential +).", 38 ~{MUTE} (in) "Muted signal = 0, normal mode = 1.", 39 DBSPD (in) "Indicates sample rate is double speed (88.2 kHz or 96 kHz), active high.", 40 STEST (in) "Tied to DVSS1 for normal operation.", 41 FTEST (in) "Tied to DVSS1 for normal operation.", 42 DEM_SEL (in) "De-emphasis select (0 = 44.1 kHz, 1 = 48 kHz).", 43 DEM_EN (in) "De-emphasis enable, active high.", 45 OSC_CAP "Oscillator cap return.", 46 XTL_OUT "Crystal output (not for external usage). NC when XTL_IN is MCLK input.", 47 XTL_IN (in) "Crystal or clock input (MCLK input)."
part B pins: 2 AVDD2 (power) "Analog supply for PLL", 5 AVSS2 (power) "Analog ground for PLL.", 12 DVDD1 (power) "Digital voltage supply for logic.", 13 DVSS1 (power) "Digital ground for logic.", 14 DVDD1 (power) "Digital voltage supply for logic.", 15 DVSS1 (power) "Digital ground for logic.", 24 DVSS3_R (power) "Digital ground for PWM output (right).", 25 DVDD3_R (power) "Digital voltage supply for PWM output (right).", 30 DVSS2 (power) "Digital ground for PWM reclocking.", 31 DVDD2 (power) "Digital voltage supply for PWM reclocking.", 36 DVDD3_L (power) "Digital voltage supply for PWM output (left).", 37 DVSS3_L (power) "Digital ground for PWM output (left).", 44 AVSS1 (power) "Analog ground for oscillator.", 48 AVDD1 (power) "Analog supply for oscillator."

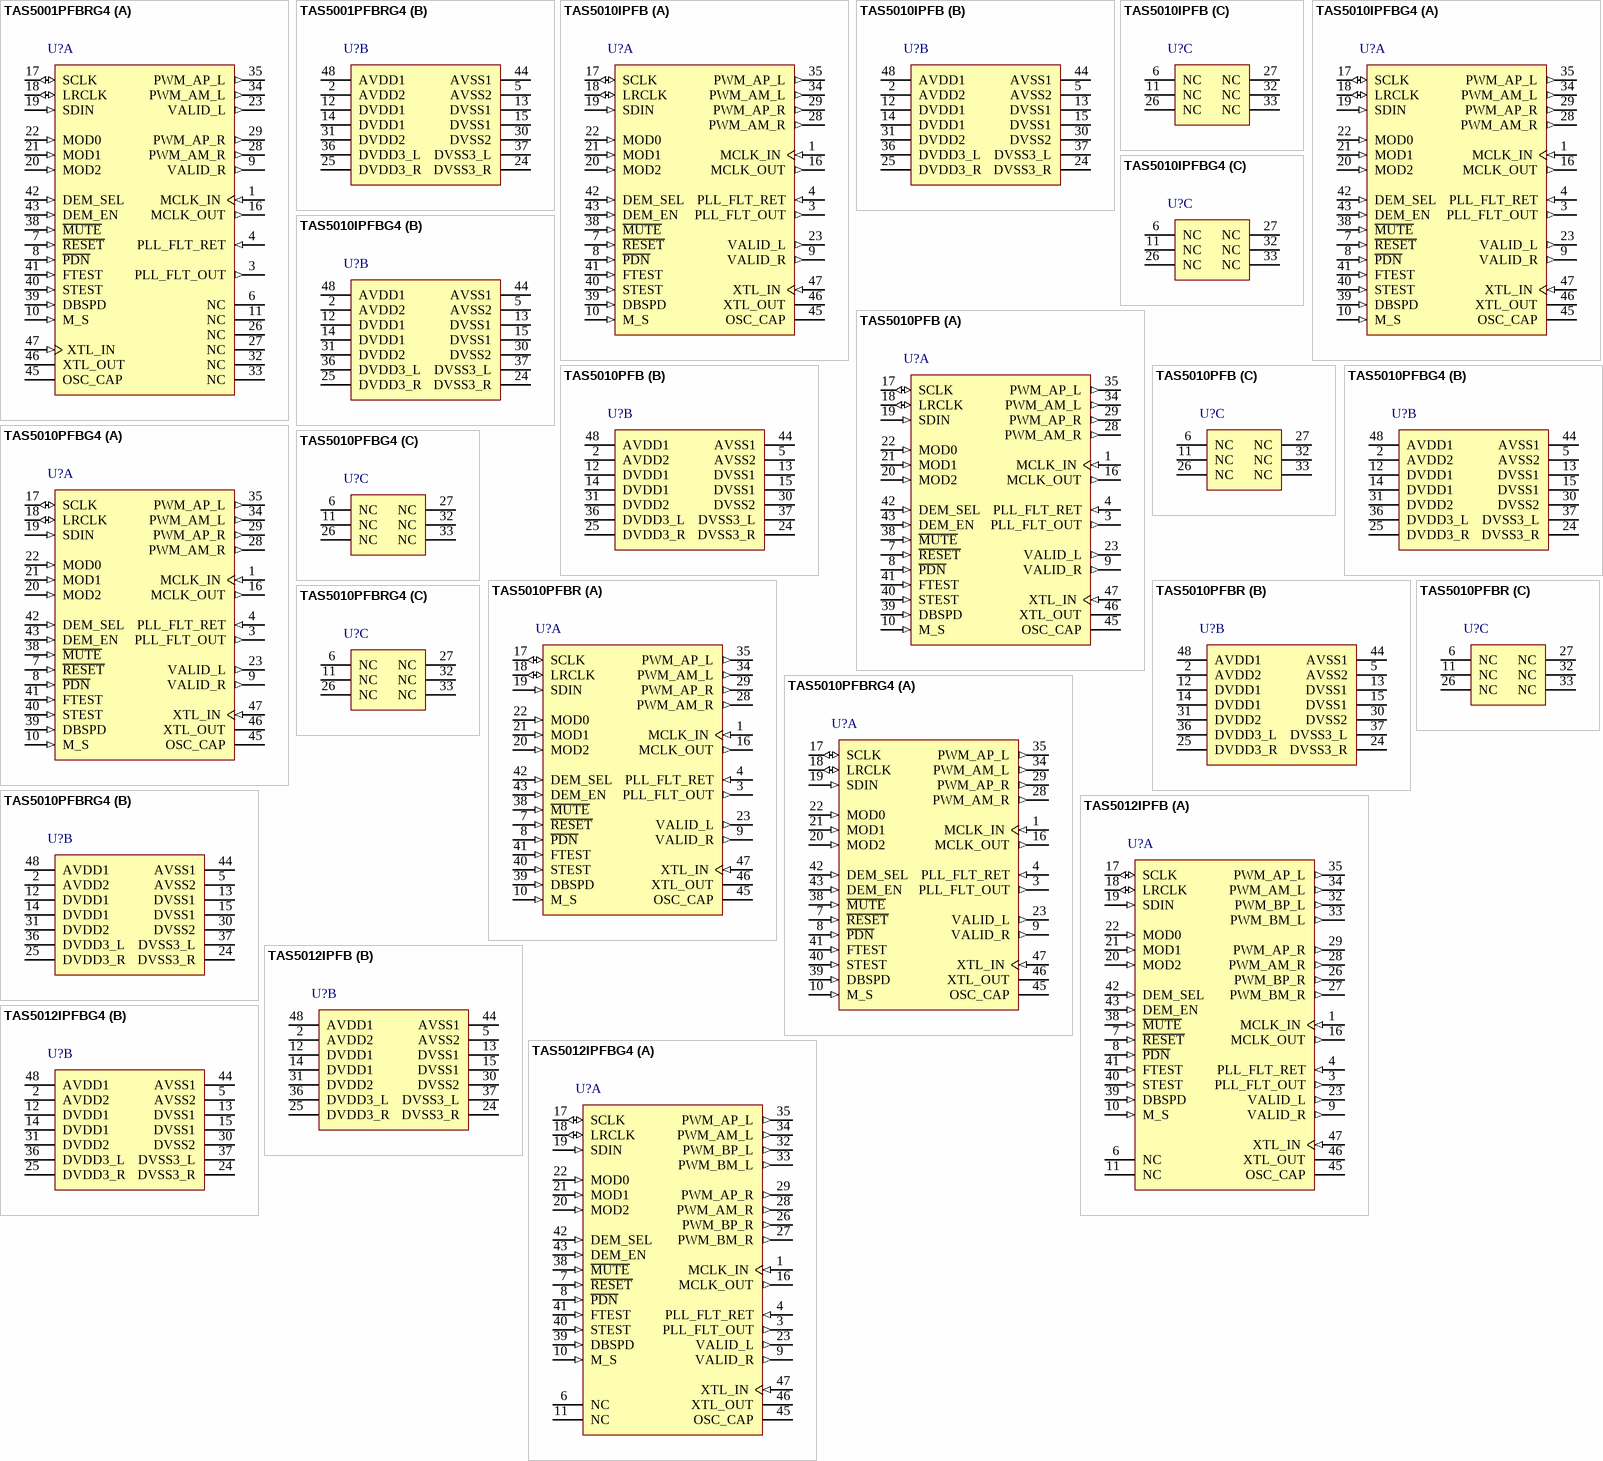
[diagram p6: symbols TAS5001PFBRG4 to TAS5012IPFBG4]

## TAS5001PFBRG4
designator U?
Digital Audio PWM Processor, 0 to 70 degC, 48-pin QFP (PFB48), Green (RoHS & no Sb/Br); Manufacturer: Texas Instruments; PartNumber: TAS5001PFBRG4; Audio Output Channels (PWM)(#): 2; Data Resolution: 16, 20, 24; Digital Supply (up to 5 V)(Max)(V): 3.6; Digital Supply (up to 5 V)(Min)(V): 3; Dynamic Range(dB): 96; Fs(Min)(kHz): 32; Mute: Yes; PurePath: TRUE; Serial Interface: I2S, R, L, DSP; DatasheetVersion: SLES009A; PackageVersion: 4073176/B, 10/1996; PackageReference: PFB48; PackageDescription: 48-Pin Plastic Flat Pack, Body 7 x 7 mm, Pitch 0.5 mm; Supplier 1: Digi-Key; Supplier Part Number 1: TAS5001PFBRG4-ND; Supplier 2: Newark; Supplier Part Number 2: 55M5932; Supplier 3: Mouser; Supplier Part Number 3: 595-TAS5001PFBRG4; Eco-Plan: Green (RoHS & no Sb/Br); Fs(Max)(kHz): 96; Loudness Compensation: No; Output: PWM; SubFamily: PWM Processor; Mounting Technology: Surface Mount; Code_JEDEC: MS-026; ComponentLink1Description: Manufacturer URL; ComponentLink1URL: http://www.ti.com/; ComponentLink2Description: Datasheet; ComponentLink2URL: http://www.ti.com/general/docs/lit/getliterature.tsp?genericPartNumber=TAS5001&fileType=pdf; ComponentLink3Description: Package Specification; ComponentLink3URL: http://www.ti.com/lit/ml/mtqf019a/mtqf019a.pdf
footprint TI-PFB48_N (QFP, 48-Leads, Body 7x7mm, Pitch 0.5mm, IPC Medium Density)
footprint TI-PFB48_L (QFP, 48-Leads, Body 7x7mm, Pitch 0.5mm, IPC High Density)
footprint TI-PFB48_M (QFP, 48-Leads, Body 7x7mm, Pitch 0.5mm, IPC Low Density)
part A pins: 1 MCLK_IN (in) "MCLK input", 3 PLL_FLT_OUT (out) "Output terminal for external PLL filter.", 4 PLL_FLT_RET (in) "Return for external PLL filter.", 6 NC "No connection.", 7 ~{RESET} (in) "Reset (active low).", 8 ~{PDN} (in) "Power down, active low.", 9 VALID_R (out) "PWM right outputs valid (active high)", 10 M_S (in) "Master/slave, master=1, slave=0.", 11 NC "No connection", 16 MCLK_OUT (out) "Buffered system clock output if M_S = 1; otherwise set to 0.", 17 SCLK (io) "Shift clock (input when M_S = 0, output when M_S = 1).", 18 LRCLK (io) "Left/right clock (input when M_S = 0; output when M_S = 1).", 19 SDIN (in) "Stereo serial audio data input.", 20 MOD2 (in) "Serial interface selection pin, bit 2 (MSB).", 21 MOD1 (in) "Serial interface selection pin, bit 1.", 22 MOD0 (in) "Serial interface selection pin, bit 0.", 23 VALID_L (out) "PWM left outputs valid (active high).", 26 NC "No connection.", 27 NC "No connection.", 28 PWM_AM_R (out) "PWM right output (differential -).", 29 PWM_AP_R (out) "PWM right output (differential +).", 32 NC "No connection.", 33 NC "No connection.", 34 PWM_AM_L (out) "PWM left output (differential -).", 35 PWM_AP_L (out) "PWM left output (differential +).", 38 ~{MUTE} (in) "Muted signal = 0, normal mode = 1.", 39 DBSPD (in) "Indicates sample rate is double speed (88.2 kHz or 96 kHz), active high.", 40 STEST (in) "Tied to DVSS1 for normal operation.", 41 FTEST (in) "Tied to DVSS1 for normal operation.", 42 DEM_SEL (in) "De-emphasis select (0 = 44.1 kHz, 1 = 48 kHz).", 43 DEM_EN (in) "De-emphasis enable, active high.", 45 OSC_CAP "Oscillator cap return.", 46 XTL_OUT "Crystal output (not for external usage). NC when XTL_IN is MCLK input.", 47 XTL_IN (in) "Crystal or clock input (MCLK input)."
part B pins: 2 AVDD2 (power) "Analog supply for PLL", 5 AVSS2 (power) "Analog ground for PLL.", 12 DVDD1 (power) "Digital voltage supply for logic.", 13 DVSS1 (power) "Digital ground for logic.", 14 DVDD1 (power) "Digital voltage supply for logic.", 15 DVSS1 (power) "Digital ground for logic.", 24 DVSS3_R (power) "Digital ground for PWM output (right).", 25 DVDD3_R (power) "Digital voltage supply for PWM output (right).", 30 DVSS2 (power) "Digital ground for PWM reclocking.", 31 DVDD2 (power) "Digital voltage supply for PWM reclocking.", 36 DVDD3_L (power) "Digital voltage supply for PWM output (left).", 37 DVSS3_L (power) "Digital ground for PWM output (left).", 44 AVSS1 (power) "Analog ground for oscillator.", 48 AVDD1 (power) "Analog supply for oscillator."

## TAS5010IPFB
designator U?
Digital Audio PWM Processor, -40 to 85 degC, 48-pin QFP (PFB48), Green (RoHS & no Sb/Br); Manufacturer: Texas Instruments; PartNumber: TAS5010IPFB; Audio Output Channels (PWM)(#): 2; Data Resolution: 16, 20, 24; Digital Input: TRUE; Digital Supply (up to 5 V)(Max)(V): 3.6; Digital Supply (up to 5 V)(Min)(V): 3; Dynamic Range(dB): 96; Fs(Max)(kHz): 192; Fs(Min)(kHz): 44.1; Mute: Yes; Serial Interface: I2S, R, L, DSP; DatasheetVersion: SLAS328; PackageVersion: 4073176/B, 10/1996; PackageReference: PFB48; PackageDescription: 48-Pin Plastic Flat Pack, Body 7 x 7 mm, Pitch 0.5 mm; Supplier 1: Digi-Key; Supplier Part Number 1: 296-12557-ND; Supplier 2: Farnell; Supplier Part Number 2: 1534661; Supplier 3: Newark; Supplier Part Number 3: 76C5969; Supplier 4: Mouser; Supplier Part Number 4: 595-TAS5010IPFB; Eco-Plan: Green (RoHS & no Sb/Br); Loudness Compensation: No; Output: PWM; PurePath: TRUE; SubFamily: PWM Processor; Mounting Technology: Surface Mount; Code_JEDEC: MS-026; ComponentLink1Description: Manufacturer URL; ComponentLink1URL: http://www.ti.com/; ComponentLink2Description: Datasheet; ComponentLink2URL: http://www.ti.com/general/docs/lit/getliterature.tsp?genericPartNumber=TAS5010&fileType=pdf; ComponentLink3Description: Package Specification; ComponentLink3URL: http://www.ti.com/lit/ml/mtqf019a/mtqf019a.pdf
footprint TI-PFB48_N (QFP, 48-Leads, Body 7x7mm, Pitch 0.5mm, IPC Medium Density)
footprint TI-PFB48_L (QFP, 48-Leads, Body 7x7mm, Pitch 0.5mm, IPC High Density)
footprint TI-PFB48_M (QFP, 48-Leads, Body 7x7mm, Pitch 0.5mm, IPC Low Density)
part A pins: 1 MCLK_IN (in) "MCLK input", 3 PLL_FLT_OUT (out) "Output terminal for external PLL filter", 4 PLL_FLT_RET (in) "Return for external PLL filter", 7 ~{RESET} (in) "Reset (active low)", 8 ~{PDN} (in) "Power down, active low", 9 VALID_R (out) "PWM right outputs valid (active high)", 10 M_S (in) "Master/slave, master=1, slave=0", 16 MCLK_OUT (out) "Buffered system clock output if M_S = 1; otherwise set to 0", 17 SCLK (io) "Shift clock (input when M_S = 0, output when M_S = 1)", 18 LRCLK (io) "Left/right clock (input when M_S = 0; output when M_S = 1)", 19 SDIN (in) "Stereo serial audio data input", 20 MOD2 (in) "Serial interface selection pin, bit 2 (MSB)", 21 MOD1 (in) "Serial interface selection pin, bit 1", 22 MOD0 (in) "Serial interface selection pin, bit 0", 23 VALID_L (out) "PWM left outputs valid (active high)", 28 PWM_AM_R (out) "PWM right output (differential -)", 29 PWM_AP_R (out) "PWM right output (differential +)", 34 PWM_AM_L (out) "PWM left output (differential -)", 35 PWM_AP_L (out) "PWM left output (differential +)", 38 ~{MUTE} (in) "Muted signal = 0, normal mode = 1", 39 DBSPD (in) "Indicates sample rate is double speed (88.2 kHz or 96 kHz), active high", 40 STEST (in) "Tied to DVSS1 for normal operation", 41 FTEST (in) "Tied to DVSS1 for normal operation", 42 DEM_SEL (in) "De-emphasis select (0 = 44.1 kHz, 1 = 48 kHz)", 43 DEM_EN (in) "De-emphasis enable, active high", 45 OSC_CAP "Oscillator cap return", 46 XTL_OUT "Crystal output (not for external usage).NC when XTL_IN is MCLK input", 47 XTL_IN (in) "Crystal or clock input (MCLK input)"
part B pins: 2 AVDD2 (power) "Analog supply for PLL", 5 AVSS2 (power) "Analog ground for PLL", 12 DVDD1 (power) "Digital voltage supply for logic", 13 DVSS1 (power) "Digital ground for logic", 14 DVDD1 (power) "Digital voltage supply for logic", 15 DVSS1 (power) "Digital ground for logic", 24 DVSS3_R (power) "Digital ground for PWM output (right)", 25 DVDD3_R (power) "Digital voltage supply for PWM output (right)", 30 DVSS2 (power) "Digital ground for PWM reclocking", 31 DVDD2 (power) "Digital voltage supply for PWM reclocking", 36 DVDD3_L (power) "Digital voltage supply for PWM output (left)", 37 DVSS3_L (power) "Digital ground for PWM output (left)", 44 AVSS1 (power) "Analog ground for oscillator", 48 AVDD1 (power) "Analog supply for oscillator"
part C pins: 6 NC "No connection", 11 NC "No connection", 26 NC "No connection", 27 NC "No connection", 32 NC "No connection", 33 NC "No connection"

## TAS5010IPFBG4
designator U?
Digital Audio PWM Processor, -40 to 85 degC, 48-pin QFP (PFB48), Green (RoHS & no Sb/Br); Manufacturer: Texas Instruments; PartNumber: TAS5010IPFBG4; Audio Output Channels (PWM)(#): 2; Data Resolution: 16, 20, 24; Digital Input: TRUE; Digital Supply (up to 5 V)(Max)(V): 3.6; Digital Supply (up to 5 V)(Min)(V): 3; Dynamic Range(dB): 96; Fs(Max)(kHz): 192; Fs(Min)(kHz): 44.1; Mute: Yes; Serial Interface: I2S, R, L, DSP; DatasheetVersion: SLAS328; PackageVersion: 4073176/B, 10/1996; PackageReference: PFB48; PackageDescription: 48-Pin Plastic Flat Pack, Body 7 x 7 mm, Pitch 0.5 mm; Supplier 1: Digi-Key; Supplier Part Number 1: TAS5010IPFBG4-ND; Supplier 2: Mouser; Supplier Part Number 2: 595-TAS5010IPFBG4; Eco-Plan: Green (RoHS & no Sb/Br); Loudness Compensation: No; Output: PWM; PurePath: TRUE; SubFamily: PWM Processor; Mounting Technology: Surface Mount; Code_JEDEC: MS-026; ComponentLink1Description: Manufacturer URL; ComponentLink1URL: http://www.ti.com/; ComponentLink2Description: Datasheet; ComponentLink2URL: http://www.ti.com/general/docs/lit/getliterature.tsp?genericPartNumber=TAS5010&fileType=pdf; ComponentLink3Description: Package Specification; ComponentLink3URL: http://www.ti.com/lit/ml/mtqf019a/mtqf019a.pdf
footprint TI-PFB48_N (QFP, 48-Leads, Body 7x7mm, Pitch 0.5mm, IPC Medium Density)
footprint TI-PFB48_L (QFP, 48-Leads, Body 7x7mm, Pitch 0.5mm, IPC High Density)
footprint TI-PFB48_M (QFP, 48-Leads, Body 7x7mm, Pitch 0.5mm, IPC Low Density)
part A pins: 1 MCLK_IN (in) "MCLK input", 3 PLL_FLT_OUT (out) "Output terminal for external PLL filter", 4 PLL_FLT_RET (in) "Return for external PLL filter", 7 ~{RESET} (in) "Reset (active low)", 8 ~{PDN} (in) "Power down, active low", 9 VALID_R (out) "PWM right outputs valid (active high)", 10 M_S (in) "Master/slave, master=1, slave=0", 16 MCLK_OUT (out) "Buffered system clock output if M_S = 1; otherwise set to 0", 17 SCLK (io) "Shift clock (input when M_S = 0, output when M_S = 1)", 18 LRCLK (io) "Left/right clock (input when M_S = 0; output when M_S = 1)", 19 SDIN (in) "Stereo serial audio data input", 20 MOD2 (in) "Serial interface selection pin, bit 2 (MSB)", 21 MOD1 (in) "Serial interface selection pin, bit 1", 22 MOD0 (in) "Serial interface selection pin, bit 0", 23 VALID_L (out) "PWM left outputs valid (active high)", 28 PWM_AM_R (out) "PWM right output (differential -)", 29 PWM_AP_R (out) "PWM right output (differential +)", 34 PWM_AM_L (out) "PWM left output (differential -)", 35 PWM_AP_L (out) "PWM left output (differential +)", 38 ~{MUTE} (in) "Muted signal = 0, normal mode = 1", 39 DBSPD (in) "Indicates sample rate is double speed (88.2 kHz or 96 kHz), active high", 40 STEST (in) "Tied to DVSS1 for normal operation", 41 FTEST (in) "Tied to DVSS1 for normal operation", 42 DEM_SEL (in) "De-emphasis select (0 = 44.1 kHz, 1 = 48 kHz)", 43 DEM_EN (in) "De-emphasis enable, active high", 45 OSC_CAP "Oscillator cap return", 46 XTL_OUT "Crystal output (not for external usage).NC when XTL_IN is MCLK input", 47 XTL_IN (in) "Crystal or clock input (MCLK input)"
part B pins: 2 AVDD2 (power) "Analog supply for PLL", 5 AVSS2 (power) "Analog ground for PLL", 12 DVDD1 (power) "Digital voltage supply for logic", 13 DVSS1 (power) "Digital ground for logic", 14 DVDD1 (power) "Digital voltage supply for logic", 15 DVSS1 (power) "Digital ground for logic", 24 DVSS3_R (power) "Digital ground for PWM output (right)", 25 DVDD3_R (power) "Digital voltage supply for PWM output (right)", 30 DVSS2 (power) "Digital ground for PWM reclocking", 31 DVDD2 (power) "Digital voltage supply for PWM reclocking", 36 DVDD3_L (power) "Digital voltage supply for PWM output (left)", 37 DVSS3_L (power) "Digital ground for PWM output (left)", 44 AVSS1 (power) "Analog ground for oscillator", 48 AVDD1 (power) "Analog supply for oscillator"
part C pins: 6 NC "No connection", 11 NC "No connection", 26 NC "No connection", 27 NC "No connection", 32 NC "No connection", 33 NC "No connection"

## TAS5010PFB
designator U?
Digital Audio PWM Processor, 0 to 70 degC, 48-pin QFP (PFB48), Green (RoHS & no Sb/Br); Manufacturer: Texas Instruments; PartNumber: TAS5010PFB; Audio Output Channels (PWM)(#): 2; Data Resolution: 16, 20, 24; Digital Input: TRUE; Digital Supply (up to 5 V)(Max)(V): 3.6; Digital Supply (up to 5 V)(Min)(V): 3; Dynamic Range(dB): 96; Fs(Max)(kHz): 192; Fs(Min)(kHz): 44.1; Mute: Yes; Serial Interface: I2S, R, L, DSP; DatasheetVersion: SLAS328; PackageVersion: 4073176/B, 10/1996; PackageReference: PFB48; PackageDescription: 48-Pin Plastic Flat Pack, Body 7 x 7 mm, Pitch 0.5 mm; Supplier 1: Digi-Key; Supplier Part Number 1: 296-12213-ND; Supplier 2: Farnell; Supplier Part Number 2: 1535744; Supplier 3: Newark; Supplier Part Number 3: 76C5971; Supplier 4: Mouser; Supplier Part Number 4: 595-TAS5010PFB; Eco-Plan: Green (RoHS & no Sb/Br); Loudness Compensation: No; Output: PWM; PurePath: TRUE; SubFamily: PWM Processor; Mounting Technology: Surface Mount; Code_JEDEC: MS-026; ComponentLink1Description: Manufacturer URL; ComponentLink1URL: http://www.ti.com/; ComponentLink2Description: Datasheet; ComponentLink2URL: http://www.ti.com/general/docs/lit/getliterature.tsp?genericPartNumber=TAS5010&fileType=pdf; ComponentLink3Description: Package Specification; ComponentLink3URL: http://www.ti.com/lit/ml/mtqf019a/mtqf019a.pdf
footprint TI-PFB48_N (QFP, 48-Leads, Body 7x7mm, Pitch 0.5mm, IPC Medium Density)
footprint TI-PFB48_L (QFP, 48-Leads, Body 7x7mm, Pitch 0.5mm, IPC High Density)
footprint TI-PFB48_M (QFP, 48-Leads, Body 7x7mm, Pitch 0.5mm, IPC Low Density)
part A pins: 1 MCLK_IN (in) "MCLK input", 3 PLL_FLT_OUT (out) "Output terminal for external PLL filter", 4 PLL_FLT_RET (in) "Return for external PLL filter", 7 ~{RESET} (in) "Reset (active low)", 8 ~{PDN} (in) "Power down, active low", 9 VALID_R (out) "PWM right outputs valid (active high)", 10 M_S (in) "Master/slave, master=1, slave=0", 16 MCLK_OUT (out) "Buffered system clock output if M_S = 1; otherwise set to 0", 17 SCLK (io) "Shift clock (input when M_S = 0, output when M_S = 1)", 18 LRCLK (io) "Left/right clock (input when M_S = 0; output when M_S = 1)", 19 SDIN (in) "Stereo serial audio data input", 20 MOD2 (in) "Serial interface selection pin, bit 2 (MSB)", 21 MOD1 (in) "Serial interface selection pin, bit 1", 22 MOD0 (in) "Serial interface selection pin, bit 0", 23 VALID_L (out) "PWM left outputs valid (active high)", 28 PWM_AM_R (out) "PWM right output (differential -)", 29 PWM_AP_R (out) "PWM right output (differential +)", 34 PWM_AM_L (out) "PWM left output (differential -)", 35 PWM_AP_L (out) "PWM left output (differential +)", 38 ~{MUTE} (in) "Muted signal = 0, normal mode = 1", 39 DBSPD (in) "Indicates sample rate is double speed (88.2 kHz or 96 kHz), active high", 40 STEST (in) "Tied to DVSS1 for normal operation", 41 FTEST (in) "Tied to DVSS1 for normal operation", 42 DEM_SEL (in) "De-emphasis select (0 = 44.1 kHz, 1 = 48 kHz)", 43 DEM_EN (in) "De-emphasis enable, active high", 45 OSC_CAP "Oscillator cap return", 46 XTL_OUT "Crystal output (not for external usage).NC when XTL_IN is MCLK input", 47 XTL_IN (in) "Crystal or clock input (MCLK input)"
part B pins: 2 AVDD2 (power) "Analog supply for PLL", 5 AVSS2 (power) "Analog ground for PLL", 12 DVDD1 (power) "Digital voltage supply for logic", 13 DVSS1 (power) "Digital ground for logic", 14 DVDD1 (power) "Digital voltage supply for logic", 15 DVSS1 (power) "Digital ground for logic", 24 DVSS3_R (power) "Digital ground for PWM output (right)", 25 DVDD3_R (power) "Digital voltage supply for PWM output (right)", 30 DVSS2 (power) "Digital ground for PWM reclocking", 31 DVDD2 (power) "Digital voltage supply for PWM reclocking", 36 DVDD3_L (power) "Digital voltage supply for PWM output (left)", 37 DVSS3_L (power) "Digital ground for PWM output (left)", 44 AVSS1 (power) "Analog ground for oscillator", 48 AVDD1 (power) "Analog supply for oscillator"
part C pins: 6 NC "No connection", 11 NC "No connection", 26 NC "No connection", 27 NC "No connection", 32 NC "No connection", 33 NC "No connection"